# EAGLE library part 62301021021 (library Board_to_Board_Connectors_rev15d)
WR-PHD 1.27mm Dual SMT Socket Header H=4.50mm, 10 Pins=>Code : Con_BTB_SHD_1.27_2_62301021021 <http://katalog.we-online.de/media/thumbs2/eican/thb_Con_BTB_SHD_1.27_2_6230xx21021_pf2.jpg> Details see: http://katalog.we-online.de/en/em/623_0xx_210_21 Created 2014-06-04, Karrer Zheng 2014 (C) Würth Elektronik
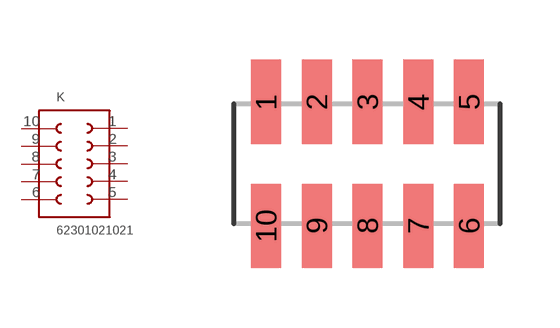
[diagram p308: symbol with the pads of 62301021021; footprint 62301021021]

Designator prefix K

## 62301021021  [62301021021]
1  1  pas
2  2  pas
3  3  pas
4  4  pas
5  5  pas
6  6  pas
7  7  pas
8  8  pas
9  9  pas
10  10  pas

## Footprint 62301021021 (pad centres in mm)
WR-PHD 1.27mm Dual SMT Socket Header H=4.50mm, 10 Pins
smd 0.75 x 2.1: 1 -3.175,1.55; 2 -1.905,1.55; 3 -0.635,1.55; 4 0.635,1.55; 5 1.905,1.55; 6 1.905,-1.55; 7 0.635,-1.55; 8 -0.635,-1.55; 9 -1.905,-1.55; 10 -3.175,-1.55